# Altium footprint library ECEN403_Parts.PcbLib: 7 footprints
Each footprint in its own frame and in the unit in brackets; x right, y up, seen from the top. Pads: shape width x height; smd on the part's side, far side on the other; paste and mask are expansions set on the pad; w line width, h text height; cw(c..) or ccw(c..) is an arc to the next point about the centre after c.
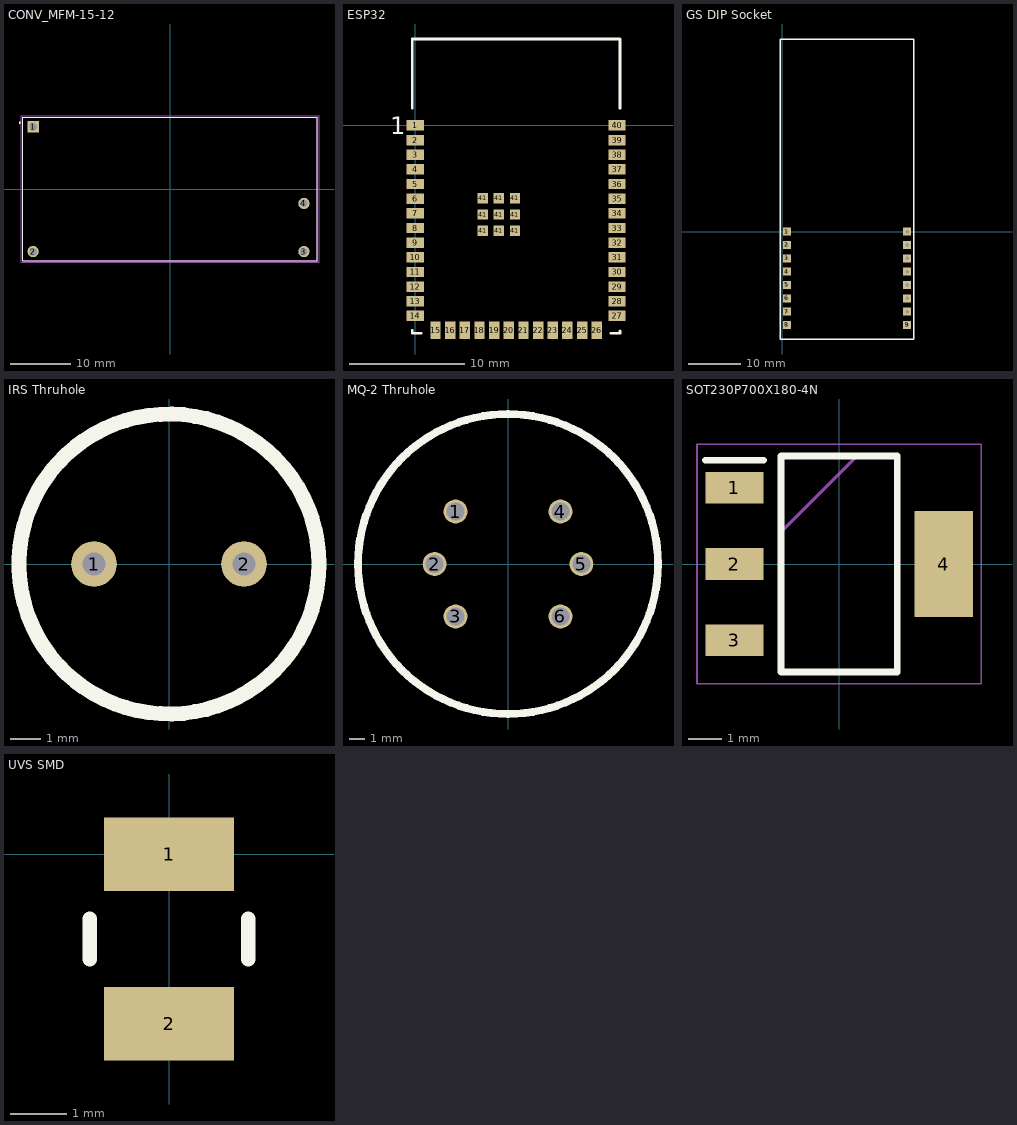
[diagram p0: the footprints below, top view; thin cyan lines are the x and y axes]

## CONV_MFM-15-12 [mm]
height 23
pads (4):
  rect 1.875x1.875 / inner round 1.875 / far side rect 1.875x1.875 hole 1.25: 1(-22.75,10.35)
  round 1.875 hole 1.25: 2(-22.75,-10.4) 3(22.25,-10.4) 4(22.25,-2.4)
Top Overlay:
  circle w0.2: c-25,11 r0.1
  lines w0.127: -24.5,-11.9 -24.5,11.9 24.5,11.9 24.5,-11.9 -24.5,-11.9
Mechanical 13:
  circle w0.2: c-25,11 r0.1
  lines w0.127: -24.5,-11.9 -24.5,11.9 24.5,11.9 24.5,-11.9 -24.5,-11.9
Mechanical 15:
  lines w0.05: -24.75,-12.15 -24.75,12.15 24.75,12.15 24.75,-12.15 -24.75,-12.15

## ESP32 [mm]
pads (49):
  rect 1.5x0.9 smd: 1(0,0) 2(0,-1.27) 3(0,-2.54) 4(0,-3.81) 5(0,-5.08) 6(0,-6.35) 7(0,-7.62) 8(0,-8.89) 9(0,-10.16) 10(0,-11.43) 11(0,-12.7) 12(0,-13.97) 13(0,-15.24) 14(0,-16.51) 27(17.5,-16.51) 28(17.5,-15.24) 29(17.5,-13.97) 30(17.5,-12.7) 31(17.5,-11.43) 32(17.5,-10.16) 33(17.5,-8.89) 34(17.5,-7.62) 35(17.5,-6.35) 36(17.5,-5.08) 37(17.5,-3.81) 38(17.5,-2.54) 39(17.5,-1.27) 40(17.5,0)
  rect 0.9x1.5 smd: 15(1.765,-17.76) 16(3.035,-17.76) 17(4.305,-17.76) 18(5.575,-17.76) 19(6.845,-17.76) 20(8.115,-17.76) 21(9.385,-17.76) 22(10.655,-17.76) 23(11.925,-17.76) 24(13.195,-17.76) 25(14.465,-17.76) 26(15.735,-17.76)
  rect 0.9x0.9 smd: 41(5.85,-9.12) 41(5.85,-7.72) 41(5.85,-6.32) 41(7.25,-9.12) 41(7.25,-7.72) 41(7.25,-6.32) 41(8.65,-9.12) 41(8.65,-7.72) 41(8.65,-6.32)
Top Overlay:
  lines w0.254: -0.25,-17.784 -0.25,-18.01 0.512,-18.01 ; -0.25,1.49 -0.25,7.49 17.75,7.49 17.75,1.49 ; 16.988,-18.01 17.75,-18.01 17.75,-17.81
  text "1" at -2.159,-0.762 h1.52

## GS DIP Socket [mm]
pads (16):
  rect 1.524x1.524 hole 0.7 square: 1(0.85,0) 2(0.85,-2.54) 3(0.85,-5.08) 4(0.85,-7.62) 5(0.85,-10.16) 6(0.85,-12.7) 7(0.85,-15.24) 8(0.85,-17.78) 9(23.75,-17.78) 10(23.75,-15.24) 11(23.75,-12.7) 12(23.75,-10.16) 13(23.75,-7.62) 14(23.75,-5.08) 15(23.75,-2.54) 16(23.75,0)
Top Overlay:
  lines w0.254: 2.1,-20.447 -0.4,-20.447 ; 22.5,-20.447 25,-20.447 ; -0.4,-20.447 -0.4,36.684 25,36.684 25,-20.447 ; -0.4,-20.447 25,-20.447

## IRS Thruhole [mm]
pads (2):
  round 1.524 hole 0.76: 1(-2.5,0) 2(2.5,0)
Top Overlay:
  circle w0.5: c0,0 r5

## MQ-2 Thruhole [mil]
pads (6):
  round 60 hole 45.28: 1(-132.23,132.23) 2(-185,0) 3(-132.23,-132.23) 4(132.23,132.23) 5(185,0) 6(132.23,-132.23)
Top Overlay:
  circle w19.68: c0,0 r377.95

## SOT230P700X180-4N [mm]
pads (4):
  rect 1.75x0.95 smd: 1(-3.15,2.3) 2(-3.15,0) 3(-3.15,-2.3)
  rect 1.75x3.2 smd: 4(3.15,0)
Top Overlay:
  lines w0.2: -4.025,3.125 -2.275,3.125 ; -1.75,-3.25 1.75,-3.25 1.75,3.25 -1.75,3.25 -1.75,-3.25
Mechanical 13:
  lines w0.1: -1.75,0.95 0.55,3.25 ; -1.75,-3.25 1.75,-3.25 1.75,3.25 -1.75,3.25 -1.75,-3.25
Mechanical 15:
  lines w0.05: -4.275,-3.6 4.275,-3.6 4.275,3.6 -4.275,3.6 -4.275,-3.6
3D body "LM2937IMP-3.3.stp": height 1.68, standoff 0, extent -3.5,-3.25 3.5,3.25

## UVS SMD [mm]
pads (2):
  rect 2.3x1.3 smd: 1(0,0) 2(0,-3)
Top Overlay:
  lines w0.254: -1.4,-1.857 -1.4,-1.143 ; 1.4,-1.857 1.4,-1.143